# EAGLE library part MCP2561FD(?) (library Microchip MCP2561)
High-Speed CAN Flexible Data Rate Transceiver
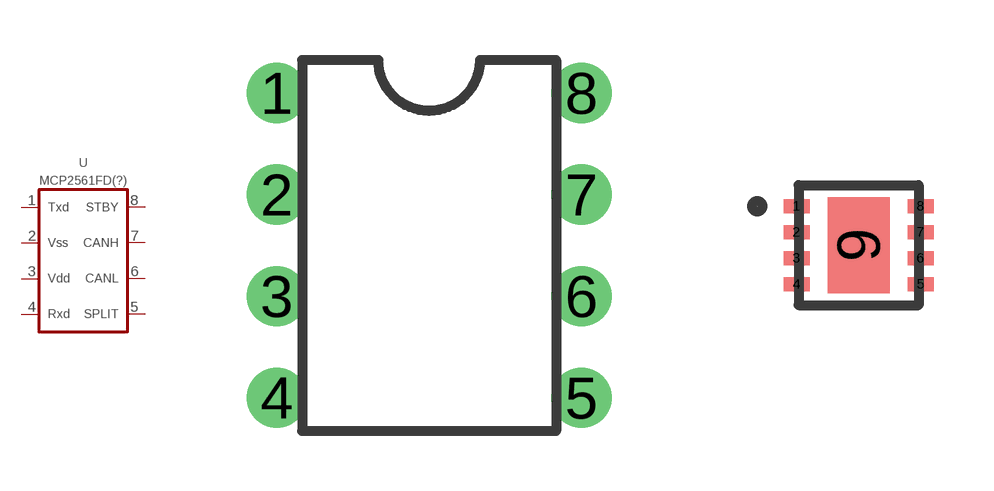
[diagram p0: symbol with the pads of PDIP; footprints PDIP, DFN]

Designator prefix U

## MCP2561FD(PDIP)  [PDIP]
1  TXD
2  VSS
3  VDD
4  RXD
5  SPLIT
6  CANL
7  CANH
8  STBY

## MCP2561FD(DFN)  [DFN]
1  TXD
2  VSS
3  VDD
4  RXD
5  SPLIT
6  CANL
7  CANH
8  STBY
9  VSS

## MCP2561FD(SOIC)  [SOIC]
Pads as for PDIP

## Footprint PDIP (pad centres in mm)
drill 1 pad 1.5: 1 -3.81,3.81; 2 -3.81,1.27; 3 -3.81,-1.27; 4 -3.81,-3.81; 5 3.81,-3.81; 6 3.81,-1.27; 7 3.81,1.27; 8 3.81,3.81

## Footprint DFN (pad centres in mm)
smd 0.65 x 0.35: 1 -1.55,0.975; 2 -1.55,0.325; 3 -1.55,-0.325; 4 -1.55,-0.975; 5 1.55,-0.975; 6 1.55,-0.325; 7 1.55,0.325; 8 1.55,0.975
smd 1.55 x 2.4: 9 0,0

## Footprint SOIC (pad centres in mm)
smd 1.55 x 0.6: 1 -2.7,1.905; 2 -2.7,0.635; 3 -2.7,-0.635; 4 -2.7,-1.905; 5 2.7,-1.905; 6 2.7,-0.635; 7 2.7,0.635; 8 2.7,1.905